# Altium footprint library RES-22R-0805.PcbLib: 1 footprints
Each footprint in its own frame and in the unit in brackets; x right, y up, seen from the top. Pads: shape width x height; smd on the part's side, far side on the other; paste and mask are expansions set on the pad; w line width, h text height; cw(c..) or ccw(c..) is an arc to the next point about the centre after c.
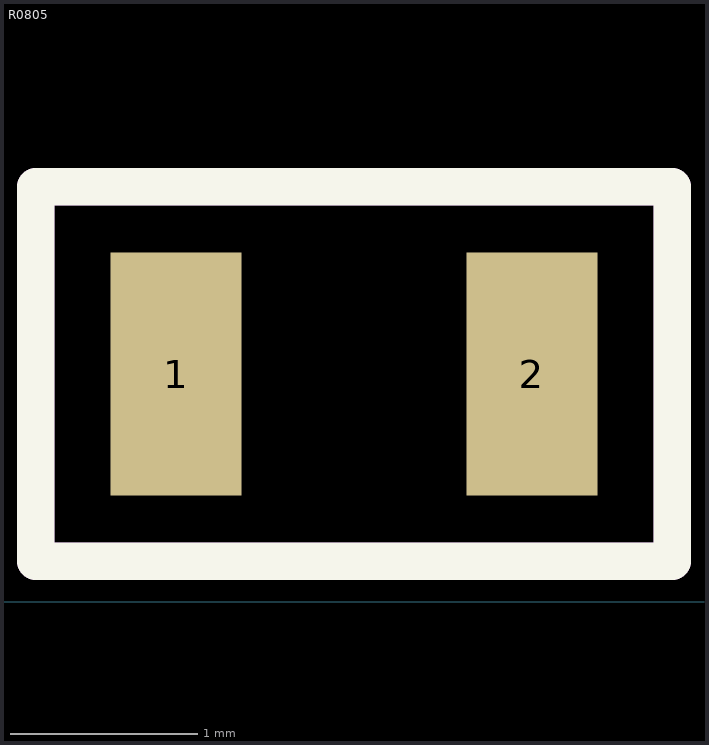
[diagram p0: the footprint, top view; thin cyan lines are the x and y axes]

## R0805 [mm]
pads (2):
  rect 0.7x1.3 smd: 1(28.881,1.217) 2(30.781,1.217)
Top Overlay:
  lines w0.2: 28.131,0.217 28.131,2.217 31.531,2.217 31.531,0.217 28.131,0.217
Mechanical 29:
  lines w0.2: 28.131,0.217 31.531,0.217 31.531,2.217 28.131,2.217 28.131,0.217
  text ".Designator" at 29.331,1.017 h0.6
3D body "RESC2012X70N EIA 0805.step": height 0.71, standoff 0.01, extent 28.831,0.617 30.831,1.817